# Altium integrated library Project_Components.IntLib: 2 symbols
Pins are listed as number, name and electrical type; pins without a type are passive.

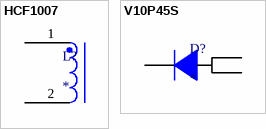
[diagram p0: symbols HCF1007 to V10P45S]

## HCF1007
designator L?
HCF1007 Inductor
footprint HCF1007
pins: 1, 2

## V10P45S
designator D?
V01P45 Shottky Diode
footprint TO-277A; pin to pad A1>1 A2>2
pins: A1, A2, K